# Altium footprint library connectors.PcbLib: 57 footprints (part 1 of 4)
Each footprint in its own frame and in the unit in brackets; x right, y up, seen from the top. Pads: shape width x height; smd on the part's side, far side on the other; paste and mask are expansions set on the pad; w line width, h text height; cw(c..) or ccw(c..) is an arc to the next point about the centre after c.
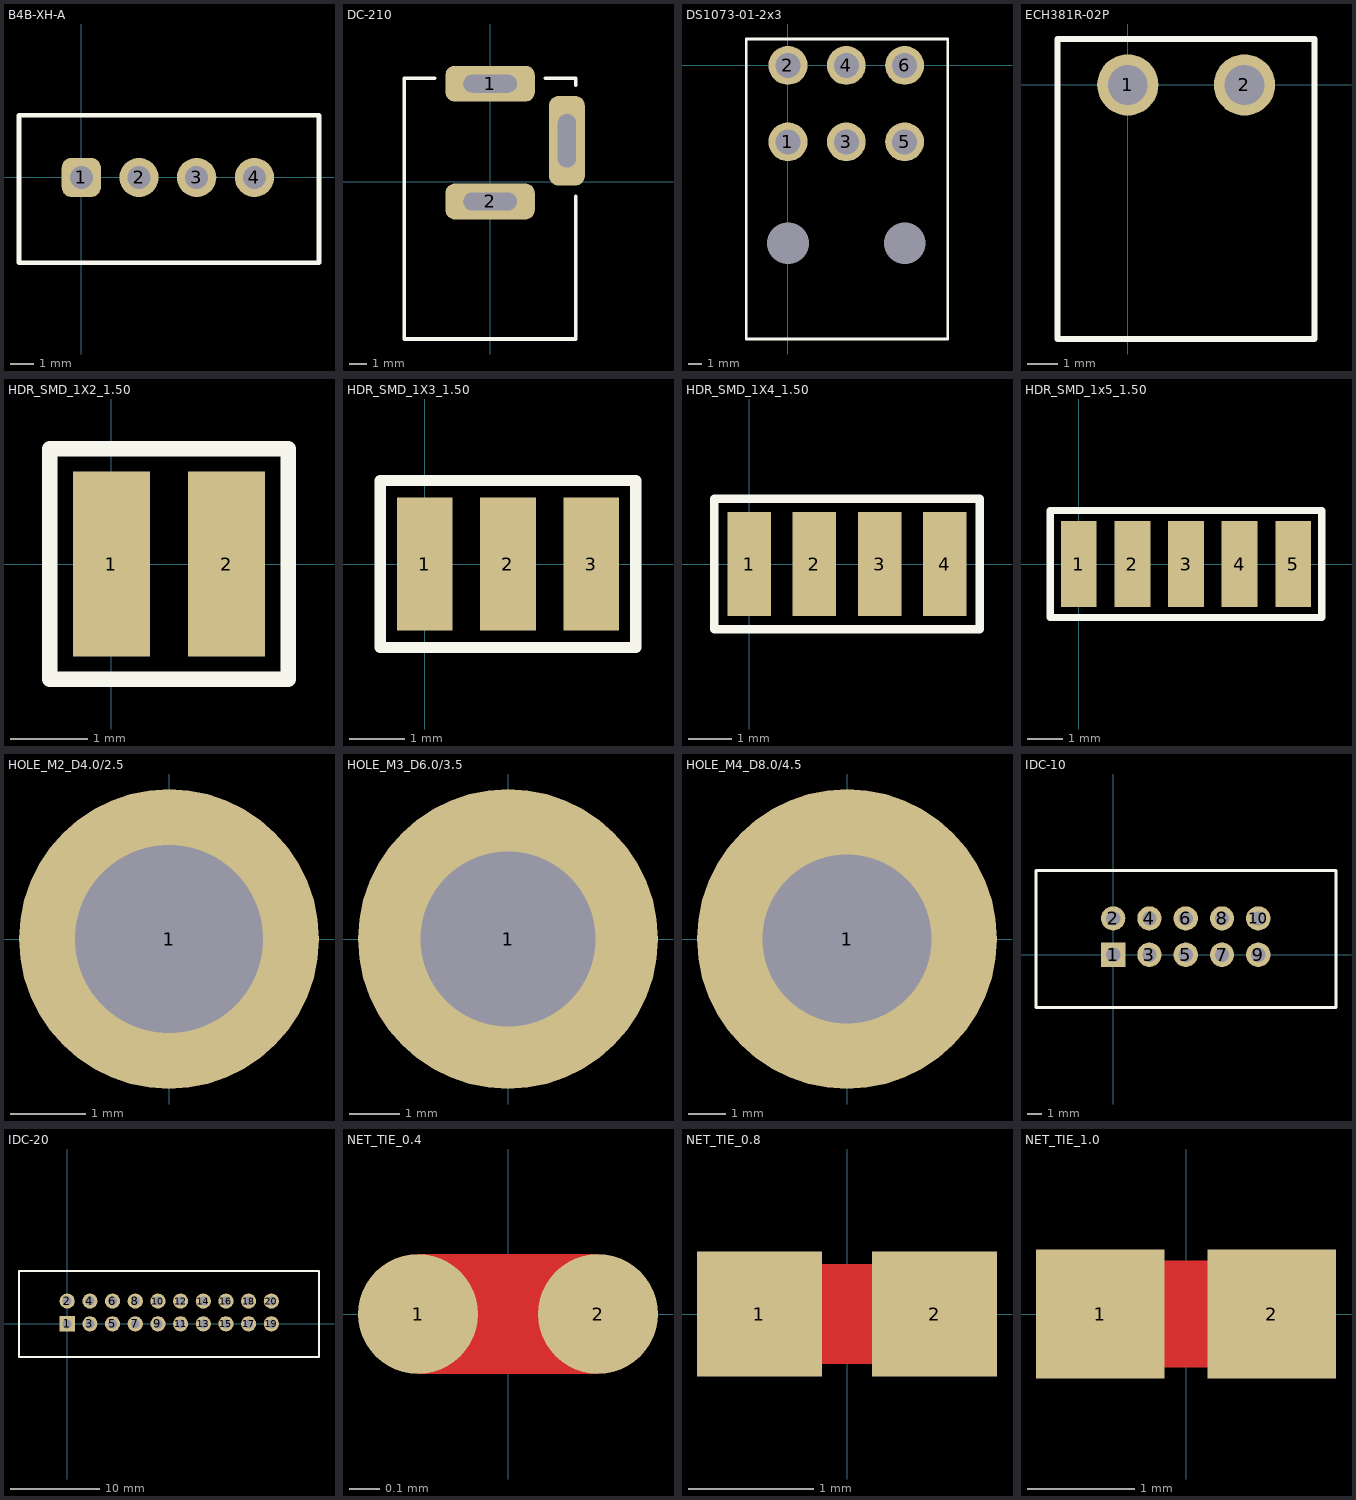
[diagram p0: the footprints below, top view; thin cyan lines are the x and y axes]

## B4B-XH-A [mm] "Pitch 2.50"
height 8.5
pads (4):
  rrect50% 1.7x1.7 hole 1 mask+0.1: 1(0,0)
  round 1.7 hole 1 mask+0.1: 2(2.5,0) 3(5,0) 4(7.5,0)
Top Overlay:
  lines w0.2: -2.7,-3.7 -2.7,2.7 10.3,2.7 10.3,-3.7 -2.7,-3.7
3D body "B4B-XH-A.STEP": height 7.36, standoff -3.04, extent -2.4,-3.4 10,2.35

## DC-210 [mm] "Pitch 2.54"
height 8.5
pads (3):
  rrect50% 5x2 hole 1 slot 3 at 0 deg mask+0.1: 1(0,5.5) 2(0,-1.1)
  rrect50% 2x5 hole 1 slot 3 at 90 deg mask+0.1: ""(4.3,2.3)
Top Overlay:
  lines w0.2: -3.1,5.8 -4.8,5.8 -4.8,-8.8 4.8,-8.8 4.8,-0.8 ; 3.1,5.8 4.8,5.8 4.8,5.4
3D body "DC Jack.STEP": height 11, standoff -3.5, extent -4.51,-8.505 4.5,5.505

## DS1073-01-2x3 [mm]
height 8.5
pads (8):
  round 2.8 hole 1.8 mask+0.1: 1(0,-5.5) 2(0,0) 3(4.2,-5.5) 4(4.2,0) 5(8.4,-5.5) 6(8.4,0)
  round 2.8 hole 3 mask+0: ""(0,-12.8) ""(8.4,-12.8)
Top Overlay:
  lines w0.2: -3,-19.7 11.5,-19.7 11.5,1.9 -3,1.9 -3,-19.7
3D body "Сборка.stp": height 11.5, standoff -3.5, extent -2.7,-19.435 11.2,0.635

## ECH381R-02P [mm]
height 8.5
pads (2):
  round 2 hole 1.3 mask+0.1: 1(0,0) 2(3.81,0)
Top Overlay:
  lines w0.2: -2.3,-8.3 -2.3,1.5 6.1,1.5 6.1,-8.3 -2.3,-8.3
3D body "ECH350R-02P.stp": height 7.2, standoff -3.4, extent -2,-8 5.8,1.2

## HDR_SMD_1X2_1.50 [mm] "Pitch 1.50"
height 8.5
pads (2):
  rect 1x2.4 smd mask+0.1: 1(0,0) 2(1.5,0)
Top Overlay:
  lines w0.2: -0.8,-1.5 -0.8,1.5 2.3,1.5 2.3,-1.5 -0.8,-1.5

## HDR_SMD_1X3_1.50 [mm] "Pitch 1.50"
height 8.5
pads (3):
  rect 1x2.4 smd mask+0.1: 1(0,0) 2(1.5,0) 3(3,0)
Top Overlay:
  lines w0.2: -0.8,-1.5 -0.8,1.5 3.8,1.5 3.8,-1.5 -0.8,-1.5

## HDR_SMD_1X4_1.50 [mm] "Pitch 1.50"
height 8.5
pads (4):
  rect 1x2.4 smd mask+0.1: 1(0,0) 2(1.5,0) 3(3,0) 4(4.5,0)
Top Overlay:
  lines w0.2: -0.8,-1.5 5.3,-1.5 5.3,1.5 -0.8,1.5 -0.8,-1.5

## HDR_SMD_1x5_1.50 [mm] "Pitch 1.50"
height 8.5
pads (5):
  rect 1x2.4 smd mask+0.1: 1(0,0) 2(1.5,0) 3(3,0) 4(4.5,0) 5(6,0)
Top Overlay:
  lines w0.2: -0.8,-1.5 6.8,-1.5 6.8,1.5 -0.8,1.5 -0.8,-1.5

## HOLE_M2_D4.0/2.5 [mm]
pads (1):
  round 4 hole 2.5 mask+0.1: 1(0,0)

## HOLE_M3_D6.0/3.5 [mm]
pads (1):
  round 6 hole 3.5 mask+0.1: 1(0,0)

## HOLE_M4_D8.0/4.5 [mm]
pads (1):
  round 8 hole 4.5 mask+0.1: 1(0,0)

## IDC-10 [mm] "IDC 10 pin"
height 8.5
pads (10):
  rect 1.7x1.7 hole 1 mask+0.1: 1(0,0)
  round 1.7 hole 1 mask+0.1: 2(0,2.54) 3(2.54,0) 4(2.54,2.54) 5(5.08,0) 6(5.08,2.54) 7(7.62,0) 8(7.62,2.54) 9(10.16,0) 10(10.16,2.54)
Top Overlay:
  lines w0.2: -5.4,-3.7 15.6,-3.7 15.6,5.9 -5.4,5.9 -5.4,-3.7
3D body "BH-10.STEP": height 8.9, standoff -3.5, extent -5.05,-3.4 15.25,5.6

## IDC-20 [mm] "IDC 20 pin"
height 8.5
pads (20):
  rect 1.7x1.7 hole 1 mask+0.1: 1(0,0)
  round 1.7 hole 1 mask+0.1: 2(0,2.54) 3(2.54,0) 4(2.54,2.54) 5(5.08,0) 6(5.08,2.54) 7(7.62,0) 8(7.62,2.54) 9(10.16,0) 10(10.16,2.54) 11(12.7,0) 12(12.7,2.54) 13(15.24,0) 14(15.24,2.54) 15(17.78,0) 16(17.78,2.54) 17(20.32,0) 18(20.32,2.54) 19(22.86,0) 20(22.86,2.54)
Top Overlay:
  lines w0.2: -5.4,-3.7 28.2,-3.7 28.2,5.9 -5.4,5.9 -5.4,-3.7
3D body "BH-20.STEP": height 8.9, standoff -3.5, extent -5.1,-3.4 27.9,5.6

## NET_TIE_0.4 [mm] "Net tie, 0.4mm width"
pads (2):
  round 0.4 smd mask-1: 1(-0.3,0) 2(0.3,0)
Top Layer:
  rectangle: -0.3,-0.2 0.3,0.2
3D body: height 0.1, standoff -0.2, extent -0.3,-0.2 0.3,0.2

## NET_TIE_0.8 [mm] "Net tie, 0.8mm width"
pads (2):
  rect 1x1 smd mask-1: 1(-0.7,0) 2(0.7,0)
Top Layer:
  rectangle: -0.3,-0.4 0.3,0.4
3D body: height 0.1, standoff -0.2, extent -0.2,-0.4 0.2,0.4

## NET_TIE_1.0 [mm] "Net tie, 0.8mm width"
pads (2):
  rect 1.2x1.2 smd mask-1: 1(-0.8,0) 2(0.8,0)
Top Layer:
  rectangle: -0.3,-0.5 0.3,0.5
3D body: height 0.1, standoff -0.2, extent -0.2,-0.4 0.2,0.4